# Altium schematic symbol library TO-247.SchLib: 1 symbol
Pins are listed as number, name and electrical type; pins without a type are passive.

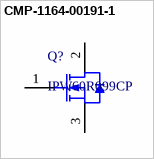
[diagram p0: symbol CMP-1164-00191-1]

## CMP-1164-00191-1
designator Q?, comment IPW60R099CP
N-Channel CoolMOS Power-Transistor, 600 V VDS, 31 A ID, -55 to 150 degC, PG-TO247-3-44, Tube, Green; Manufacturer: Infineon; RDS (on) (max): 99Â mOhm; VGS(th) (max): 3.5Â V; Green: TRUE; Rth: 0.5Â K/W; VGS(th) (min): 2.5Â V; QG: 60Â nC; Ptot (max): 255Â W; Polarity: N; VDS (max): 600Â V; IDpuls (max): 93Â A; ID (max): 31Â A; RthJA (max): 62Â K/W; Packing: Tube; PackageVersion: Rev. 03; PackageDescription: 3-Pin Plastic (Green) Transistor Single Outline Package, 15.94 x 20.95 mm Body, 5.44 mm Pitch; ComponentLink2Description: Datasheet; ComponentLink1URL: http://www.infineon.com/; ComponentLink3Description: Package Specification; PackageReference: PG-TO247-3-44; Halogen-free: available; DatasheetVersion: Rev. 2.1; RthJC (max): 0.5Â K/W; PartNumber: IPW60R099CP; ComponentLink1Description: Manufacturer URL; Mounting Technology: Through Hole; Technology: CoolMOS CP; ComponentLink3URL: http://www.infineon.com/cms/packages/Leaded_and_through-hole/P-PG-TO247/P-PG-TO247-3-44.html?__locale=en; ComponentLink2URL: http://www.infineon.com/dgdl/IPW60R099CP_rev2%5B1%5D.1_PCN.pdf?folderId=db3a304412b407950112b408e8c90004&fileId=db3a304412b407950112b42ca4c24745
footprint INF-PG-TO247-3-44 (FM, 3-Leads, Body 5.02x15.94mm, Pitch 5.44mm)
pins: 1 GATE, 2 DRAIN, 3 SOURCE